# Altium footprint library SOT-563-6.PcbLib: 1 footprints
Each footprint in its own frame and in the unit in brackets; x right, y up, seen from the top. Pads: shape width x height; smd on the part's side, far side on the other; paste and mask are expansions set on the pad; w line width, h text height; cw(c..) or ccw(c..) is an arc to the next point about the centre after c.
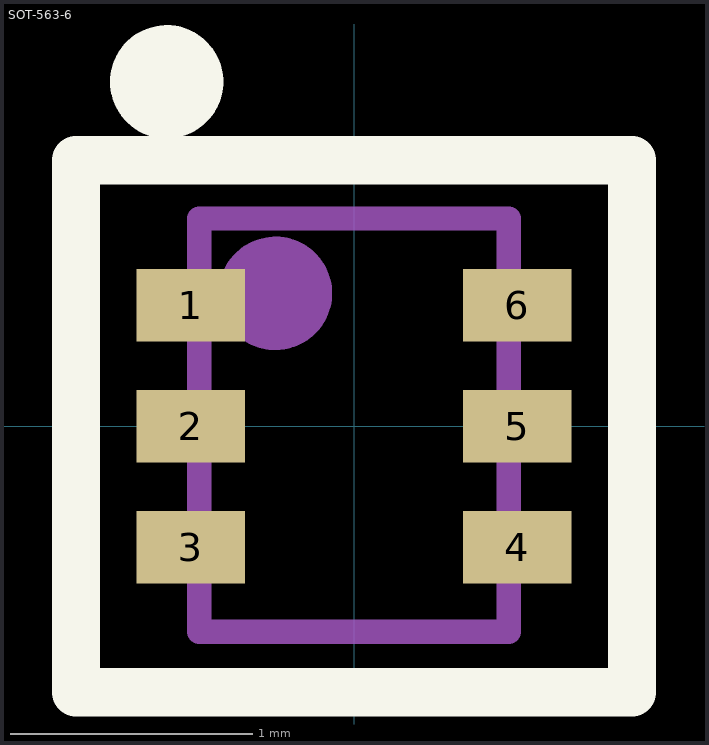
[diagram p0: the footprint, top view; thin cyan lines are the x and y axes]

## SOT-563-6 [mm]
height 1
pads (6):
  rect 0.45x0.3 smd paste+0 mask+0.05: 1(-0.675,0.5) 2(-0.675,0) 3(-0.675,-0.5) 4(0.675,-0.5) 5(0.675,0) 6(0.675,0.5)
Top Overlay:
  circle w0.254: c-0.775,1.425 r0.108
  lines w0.2: -1.15,-1.1 -1.15,1.1 1.15,1.1 1.15,-1.1 -1.15,-1.1
Top Assembly:
  circle w0.254: c-0.325,0.55 r0.108
  lines w0.1: -0.64,-0.85 0.64,-0.85 0.64,0.86 -0.64,0.86 -0.64,-0.85
  text "'.Designator'" at 0,0 h0.8
Mechanical 6:
  lines w0.05: -1.15,-1.1 1.15,-1.1 1.15,1.1 -1.15,1.1 -1.15,-1.1
3D body: height 0.6, standoff 0, extent -0.65,-0.85 0.65,0.85